# Altium schematic symbol library Schlib.SchLib: 29 symbols
Pins are listed as number, name and electrical type; pins without a type are passive.

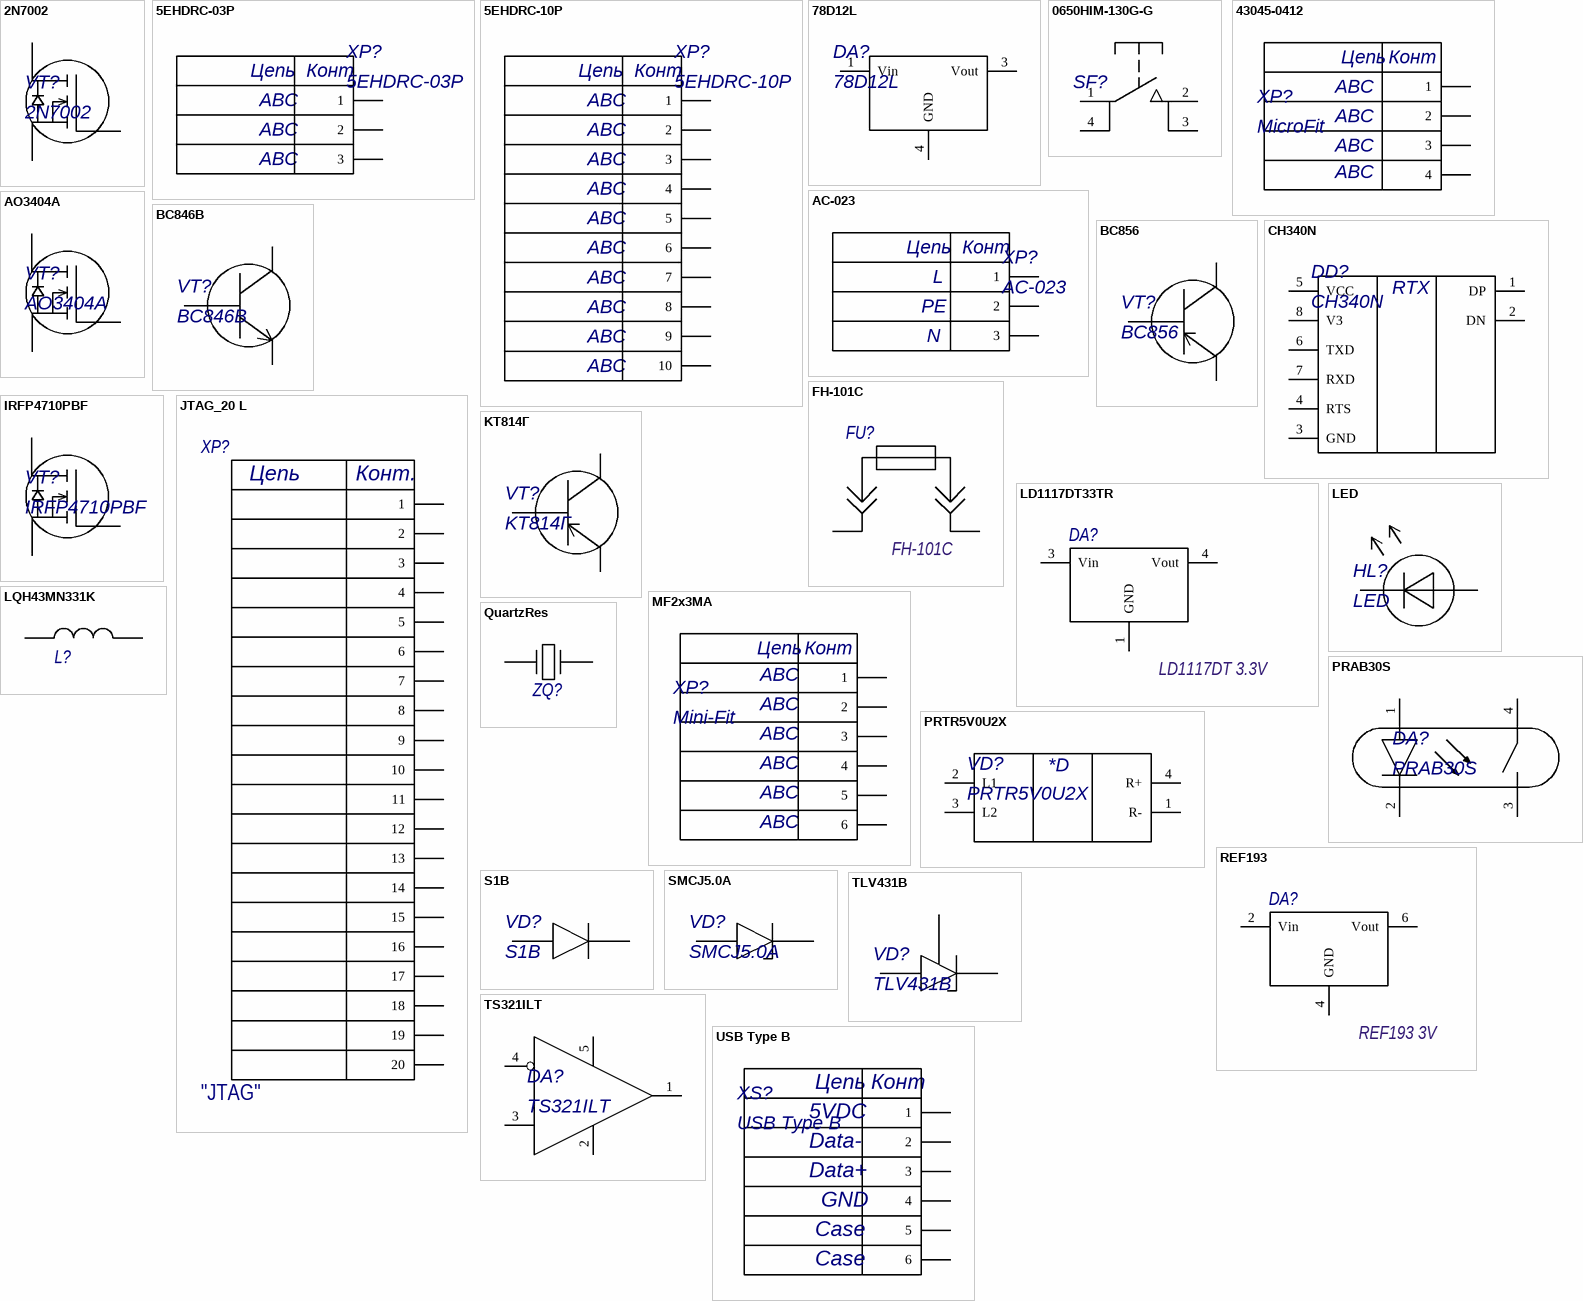
[diagram p0: symbols 2N7002 to USB Type B]

## 2N7002
designator VT?
Транзистор MOSFET N-канал, 60В; Manufacturer: UTD Semiconductor Co.; Case: SOT-23; Name: 2N7002; Datasheet: https://static.chipdip.ru/lib/301/DOC021301072.pdf
footprint SOT-23 (3-Leads, Body 2,90x2,30mm, Pitch 0,95mm, IPC Medium Density)
pins: 1 G, 2 D, 3 S

## 5EHDRC-03P
designator XP?  P1: ABC
Клеммник 3 конт. "вилка" шаг 5.00 мм; Manufacturer: Dinkle Enterprise; Name: 5EHDRC-03P; Datasheet: https://static.chipdip.ru/lib/008/DOC004008828.pdf; P2: ABC; P3: ABC
footprint 5EHDRC-03P (5EHDRC-03P (1x3) 2.54pit 1mm hole [16.6x12.00])
pins: 1, 2, 3
text: Цепь; Конт

## 5EHDRC-10P
designator XP?  P6: ABC
Клеммник 10 конт. "вилка" шаг 5.00 мм; Manufacturer: Dinkle Enterprise; Name: 5EHDRC-10P; Datasheet: https://www.lcsc.com/datasheet/lcsc_datasheet_2311281934_Dinkle-5EHDR-10P_C5515183.pdf; P1: ABC; P2: ABC; P3: ABC; P4: ABC; P5: ABC; P7: ABC; P8: ABC; P9: ABC; P10: ABC
footprint 5EHDRC-10P (5EHDRC-10P (1x10) 2.54pit 1mm hole [51,9x12.00])
pins: 1, 2, 3, 4, 5, 6, 7, 8, 9, 10
text: Цепь; Конт

## 78D12L
designator DA?
Стабилизатор напряжения, 12В; Manufacturer: UTD Semiconductor Co.,Ltd; Case: DPAK (TO-252); Name: 78D12L; TU: *; Datasheet: https://static.chipdip.ru/lib/619/DOC025619012.pdf
footprint DPAK (DPAK (TO-252))
pins: 1 Vin, 3 Vout, 4 GND

## 0650HIM-130G-G
designator SF?  (value not drawn)
Кнопка тактовая, h=5мм; Manufacturer: Switronic Industrial; Name: 0613HIM-130G-G; Case: TC-0103; Datasheet: https://static.chipdip.ru/lib/154/DOC001154468.pdf
footprint TC-0103
pins: 1, 2, 3, 4

## 43045-0412
designator XP?, comment MicroFit  P4: ABC
MicroFit 3mm RA Male 4 pin; Manufacturer: Molex Incorporated; Name: 43045-0412; Case: MF3-04MA; TU: *; P3: ABC; P2: ABC; P1: ABC
footprint MF3-04MA (Micro-Fit 3.0 43045-0412 4pin)
pins: 1, 2, 3, 4
text: Цепь; Конт

## AC-023
designator XP?
Разъём питания AC, одинарный; Manufacturer: RUICHI; Name: AC-023
footprint IEC-C14 (IEC С14)
pins: 1, 2, 3
text: Цепь; Конт; L; PE; N

## AO3404A
designator VT?
Транзистор MOSFET N-канал, 30В; Manufacturer: UTD Semiconductor Co.,Ltd; Case: SOT-23; Name: AO3404A; Datasheet: https://static.chipdip.ru/lib/906/DOC012906979.pdf
footprint SOT-23 (3-Leads, Body 2,90x2,30mm, Pitch 0,95mm, IPC Medium Density)
pins: 1 G, 2 D, 3 S

## BC846B
designator VT?
Транзистор биполярный NPN, 65В; Manufacturer: Nexperia B.V.; Case: SOT-23; Name: BC846B; Datasheet: https://static.chipdip.ru/lib/551/DOC012551042.pdf
footprint SOT-23 (3-Leads, Body 2,90x2,30mm, Pitch 0,95mm, IPC Medium Density)
pins: 1 B, 2 E, 3 C

## BC856
designator VT?
Транзистор биполярный PNP, 65В; Manufacturer: Nexperia; Case: SOT-23; Name: BC856; Datasheet: https://static.chipdip.ru/lib/365/DOC004365998.pdf
footprint SOT-23 (3-Leads, Body 2,90x2,30mm, Pitch 0,95mm, IPC Medium Density)
pins: 1 Э, 2 К, 3 Б

## CH340N
designator DD?
Преобразователь интерфейса USB в UART; Manufacturer: Nanjing Qinheng Microelectronics; Case: SOP-8; Name: CH340N; Datasheet: https://static.chipdip.ru/lib/375/DOC030375417.pdf
footprint SOP-8 (SOIC) (8-Lead Standard Small Outline Package)
pins: 1 DP, 2 DN, 3 GND, 4 RTS, 5 VCC, 6 TXD, 7 RXD, 8 V3
text: RTX

## FH-101C
designator FU?
Fuse holder 5x20mm; Manufacturer: Dragon City Industries; Case: FH-101C; Name: FH-101C; Datasheet: https://static.chipdip.ru/lib/550/DOC014550336.pdf
footprint FH-101C (FH-101C 5x20 fuse holder)
pins: 1, 2

## IRFP4710PBF
designator VT?
Транзистор MOSFET N-канал, 100В; Manufacturer: INFINEON TECHNOLOGIES AG.; Case: TO-247AC; Name: IRFP4710PBF; Datasheet: https://static.chipdip.ru/lib/205/DOC000205410.pdf
footprint TO-247AC
pins: 1 G, 2 D, 3 S

## JTAG_20 L
designator XP?, comment "JTAG"
J-TAG Connector; Name: JTAG_20; Manufacturer: *; Case: *
footprint IDC_20 (IDC_20 (2x10) 2.54pit 1mm hole [33.0x9.1])
pins: 1, 2, 3, 4, 5, 6, 7, 8, 9, 10, 11, 12, 13, 14, 15, 16, 17, 18, 19, 20
text: Цепь; Конт.

## KT814Г
designator VT?
Транзистор биполярный PNP, 100В; Manufacturer: АО «ГРУППА КРЕМНИЙ ЭЛ»; TU: аАО.336.184 ТУ/02; Case: TO-126; Name: KT814Г; Datasheet: https://static.chipdip.ru/lib/404/DOC047404057.pdf
footprint TO-126
pins: 1 Э, 2 К, 3 Б

## LD1117DT33TR
designator DA?, comment LD1117DT 3.3V
LDO-регулятор напряжения, 3.3В; Manufacturer: STMicroelectronics; Name: LD1117DT33TR; Case: DPAK; Datasheet: https://static.chipdip.ru/lib/677/DOC011677089.pdf
footprint DPAK (DPAK (TO-252))
pins: 1 GND, 3 Vin, 4 Vout

## LED
designator HL?
Светодиод, d=5мм; Manufacturer: Kingbright; Name: L-7113IT; Case: L-7113IT; Datasheet: https://static.chipdip.ru/lib/771/DOC059771173.pdf
footprint LED 5mm Orang (GNL-5012ED)
footprint LED 5mm (L-7113IT) (L-7113IT, body 59x356mm)
pins: 1 K, 2 A

## LQH43MN331K
designator L?  (value not drawn)
Чип-индуктивность 95мА, 330мкГн 10%; Manufacturer: Murata Electronics; TU: JELF243A-0043P-01; Case: LQH43M (1812); Name: LQH43MN331K; Datasheet: https://static.chipdip.ru/lib/442/DOC012442357.pdf
footprint LQH43M (1812) (SMD inductor)
pins: 1, 2

## MF2x3MA
designator XP?, comment Mini-Fit  P6: ABC
Mini-Fit 4,2mm A Male 6 pin; Manufacturer: Connfly Electronic Co.; Name: DS1073-01-2x3-MVT6; Case: MF2x3MA; P5: ABC; P4: ABC; P3: ABC; P2: ABC; P1: ABC
footprint MF2x3MA (Mini-Fit 4,2mm A Male 6 pin)
pins: 1, 2, 3, 4, 5, 6
text: Цепь; Конт

## PRAB30S
designator DA?
Реле твердотельное с оптической развязкой; Manufacturer: ОАО «Протон»; Case: SOP-4; Name: PRAB30S; Datasheet: https://static.chipdip.ru/lib/271/DOC000271061.pdf
footprint SOP-4 (PRAB30S (KAQY214S), Реле твердотельное с оптической развязкой (400В 100мА) SOP4)
pins: 1 A1, 2 K1, 3 Out1.2, 4 Out1.1

## PRTR5V0U2X
designator VD?
Защитная диодная сборка от статического заряда; Manufacturer: UTD Semiconductor (UMW); Case: SOT-143; Name: PRTR5V0U2X; Datasheet: https://static.chipdip.ru/lib/303/DOC021303242.pdf
footprint SOT-143
pins: 1 R-, 2 L1, 3 L2, 4 R+
text: *D

## QuartzRes
designator ZQ?  (value not drawn)
Кварцевый резонатор, 8 МГц; Manufacturer: SJK; Case: HC-49SM; Name: QuartzRes; Datasheet: https://static.chipdip.ru/lib/086/DOC053086711.pdf
footprint HC-49SM (SMD Metal-can Type CRYSTAL)
pins: 1, 2

## REF193
designator DA?, comment REF193 3V
Источник опорного напряжения, 3В; Manufacturer: Analog Devices; Name: REF193GSZ-REEL; Case: SOP-8; Datasheet: https://static.chipdip.ru/lib/039/DOC012039028.pdf
footprint SOP-8 (SOIC) (8-Lead Standard Small Outline Package)
pins: 2 Vin, 4 GND, 6 Vout

## S1B
designator VD?
Диод выпрямительный, 100В; Manufacturer: Diotec Semiconductor; Case: DO-214AC; Name: S1B; Datasheet: https://static.chipdip.ru/lib/113/DOC032113174.pdf
footprint DO-214AC (2-Leads, Body 5x2,7mm)
pins: 1, 2

## SMCJ5.0A
designator VD?
Защитный диод, 5В; Manufacturer: UTD Semiconductor Co.,Ltd; Case: DO-201; Name: SMCJ5.0A; Datasheet: https://static.chipdip.ru/lib/863/DOC025863760.pdf
footprint DO-27 (DO-27 (DO-201AD))
footprint DO-214AB (2-Leads, Body 7,1x6,2mm)
pins: 1, 2

## TLV431B
designator VD?
Стабилитрон регулируемый, 6В; Manufacturer: Texas Instruments; Case: SOT-23; Name: TLV431B; Datasheet: https://static.chipdip.ru/lib/985/DOC012985043.pdf
footprint SOT-23 (3-Leads, Body 2,90x2,30mm, Pitch 0,95mm, IPC Medium Density)
pins: 1, 2, 3

## TS321ILT
designator DA?
1х Операционный усилитель; Manufacurer: STMicroelectronics; Case: SOT-23-5; Name: TS321ILT; Datasheet: https://static.chipdip.ru/lib/710/DOC011710227.pdf
footprint SOT-23-5 (5-Leads, Body 3,00x1,70mm, Pitch 0,95mm)
pins: 1 OUT, 2 GND, 3 +, 4 -, 5 Vcc

## USB Type B
designator XS?
Гнездо USB тип B; Manufacturer: Connfly electronic (Zhenqin); Name: USBB-1J; Case: USBB-1J (DS1099-W); Datasheet: https://static.chipdip.ru/lib/252/DOC051252493.pdf
footprint USB Type B (USBB-1J (DS1099-W))
pins: 1, 2, 3, 4, 5, 6
text: Цепь; Конт; 5VDC; Data-; Data+; GND; Case

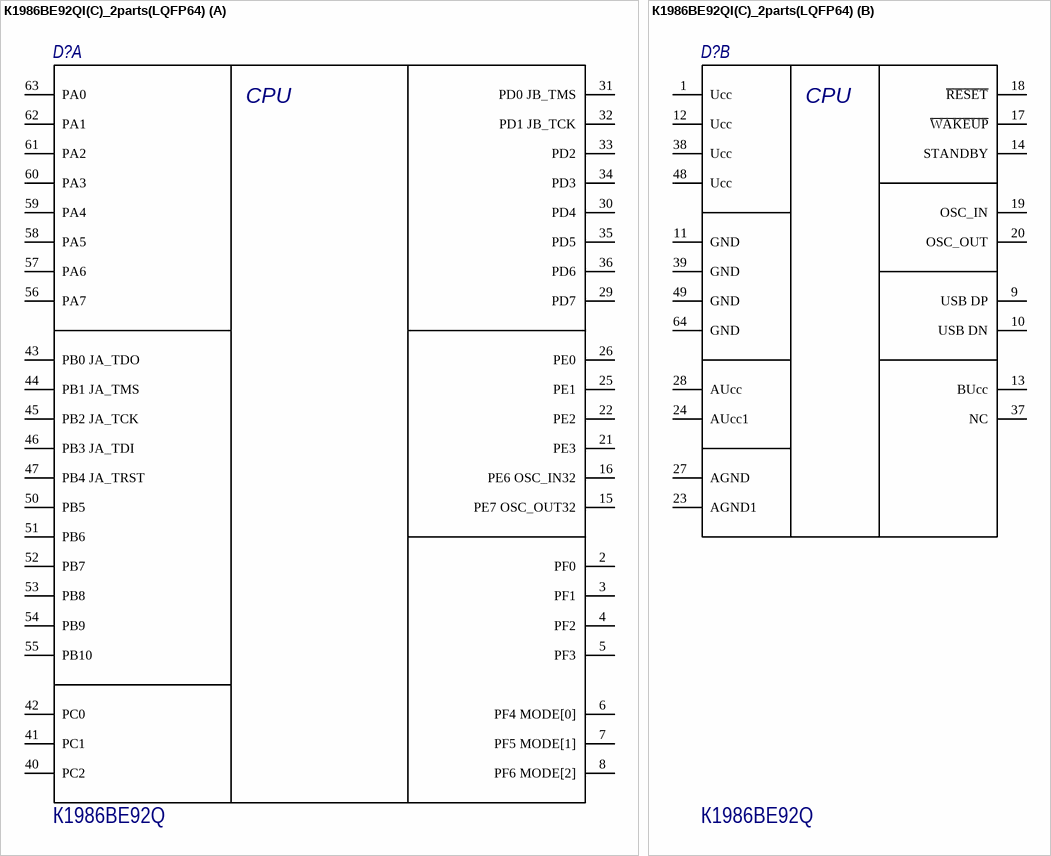
[diagram p1: symbol К1986ВЕ92QI(C)_2parts(LQFP64)]

## К1986ВЕ92QI(C)_2parts(LQFP64)
designator D?, comment К1986ВЕ92Q
32бит микроконтроллер CortexM3; Manufacturer: АО «ПКК Миландр»; TU: ТСКЯ.431296.021СП; Case: LQFP64, пласт.; Name: К1986ВЕ92Q
footprint LQFP64 (TSQFP, 64-Leads, Body 10,00x10,00mm, Pitch 0,50mm, IPC Medium Density)
part A pins: 2 PF0, 3 PF1, 4 PF2, 5 PF3, 6 PF4 MODE[0], 7 PF5 MODE[1], 8 PF6 MODE[2], 15 PE7 OSC_OUT32, 16 PE6 OSC_IN32, 21 PE3, 22 PE2, 25 PE1, 26 PE0, 29 PD7, 30 PD4, 31 PD0 JB_TMS, 32 PD1 JB_TCK, 33 PD2, 34 PD3, 35 PD5, 36 PD6, 40 PC2, 41 PC1, 42 PC0, 43 PB0 JA_TDO, 44 PB1 JA_TMS, 45 PB2 JA_TCK, 46 PB3 JA_TDI, 47 PB4 JA_TRST, 50 PB5, 51 PB6, 52 PB7, 53 PB8, 54 PB9, 55 PB10, 56 PA7, 57 PA6, 58 PA5, 59 PA4, 60 PA3, 61 PA2, 62 PA1, 63 PA0
part B pins: 1 Ucc, 9 USB DP, 10 USB DN, 11 GND, 12 Ucc, 13 BUcc, 14 STANDBY, 17 ~{WAKEUP}, 18 ~{RESET}, 19 OSC_IN, 20 OSC_OUT, 23 AGND1, 24 AUcc1, 27 AGND, 28 AUcc, 37 NC, 38 Ucc, 39 GND, 48 Ucc, 49 GND, 64 GND
part A text: CPU
part B text: CPU